# Altium schematic symbol library Driver.SchLib: 4 symbols
Pins are listed as number, name and electrical type; pins without a type are passive.

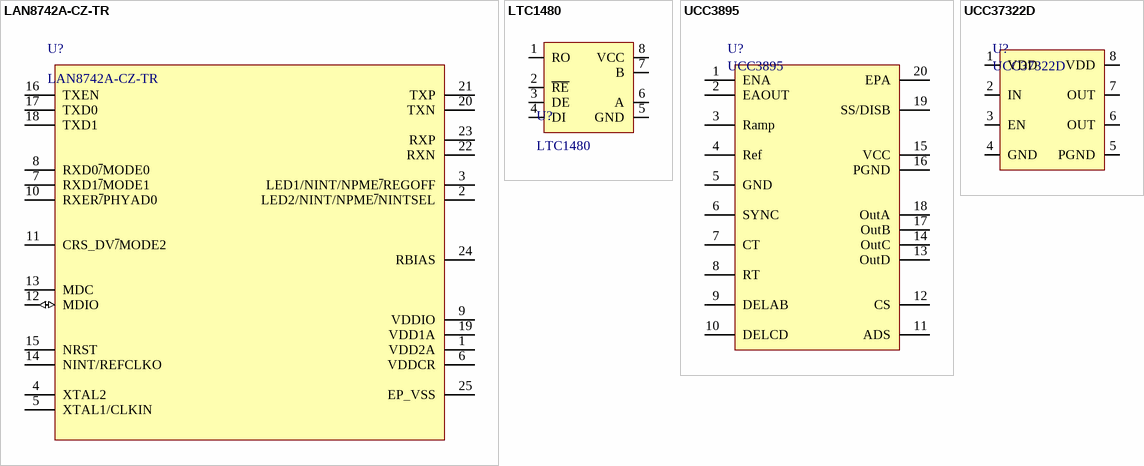
[diagram p0: symbols LAN8742A-CZ-TR to UCC37322D]

## LAN8742A-CZ-TR
designator U?
10/100 Base-T/TX Ethernet Transceiver with Cable Diagnostics; Supplier 1: Farnell; Supplier 2: Mouser; Supplier Part Number 1: 2857750; Supplier Part Number 2: 579-LAN8742A-CZ-TR
footprint LAN8742A-CZ-TR (10/100 Base-T/TX Ethernet Transceiver with Cable Diagnostics)
pins: 1 VDD2A (power), 2 LED2/NINT/NPME~{/}NINTSEL, 3 LED1/NINT/NPME~{/}REGOFF, 4 XTAL2, 5 XTAL1/CLKIN, 6 VDDCR (power), 7 RXD1~{/}MODE1, 8 RXD0~{/}MODE0, 9 VDDIO (power), 10 RXER~{/}PHYAD0, 11 CRS_DV~{/}MODE2, 12 MDIO (io), 13 MDC, 14 NINT/REFCLKO, 15 NRST, 16 TXEN, 17 TXD0, 18 TXD1, 19 VDD1A (power), 20 TXN, 21 TXP, 22 RXN, 23 RXP, 24 RBIAS, 25 EP_VSS

## LTC1480
designator U?
RS485 / 422 low power driver; Supplier 1: Farnell; Supplier Part Number 1: 1663633
footprint LTC1480 (RS485 / 232 low power driver)
pins: 1 RO, 2 ~{RE}, 3 DE, 4 DI, 5 GND, 6 A, 7 B, 8 VCC

## UCC3895
designator U?
BiCMOS Advanced Phase-Shift PWM Controller; Supplier 1: Mouser; Supplier Part Number 1: 595-UCC3895DW
footprint UCC3895 (BiCMOS Advanced Phase-Shift PWM Controller)
pins: 1 ENA, 2 EAOUT, 3 Ramp, 4 Ref, 5 GND, 6 SYNC, 7 CT, 8 RT, 9 DELAB, 10 DELCD, 11 ADS, 12 CS, 13 OutD, 14 OutC, 15 VCC, 16 PGND, 17 OutB, 18 OutA, 19 SS/DISB, 20 EPA

## UCC37322D
designator U?
MOSFET Driver Single, Low Side; Supplier 1: Mouser; Supplier Part Number 1: 595-UCC37322D
footprint UCC37322 (MOSFET Driver Single, Low Side)
pins: 1 VDD, 2 IN, 3 EN, 4 GND, 5 PGND, 6 OUT, 7 OUT, 8 VDD